# EAGLE library part XCL101A301ER-G (library XCL101A301ER-G)
Switching Voltage Regulators 100mA Inductor micro DCDC Converter Source: Datasheet <https://www.torexsemi.com/file/xcl101/XCL101.pdf>
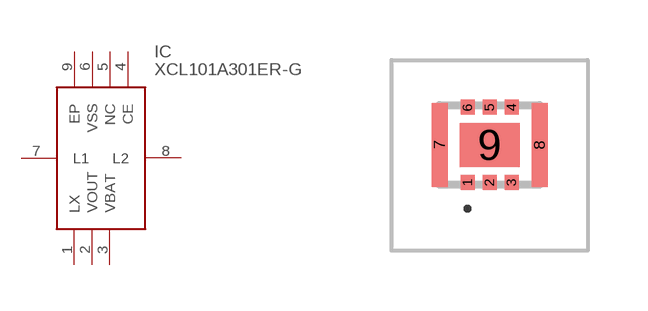
[diagram p0: symbol with the pads of XCL101A301ERG; footprint XCL101A301ERG]

Designator prefix IC

## XCL101A301ER-G (Description: Switching Voltage Regulators 100mA Inductor micro DCDC Converter; Height: 1.04mm; Manufacturer_Name: Torex; Manufacturer_Part_Number: XCL101A301ER-G; Mouser_Part_Number: 865-XCL101A301ER-G; Mouser_Price-Stock: https://www.mouser.co.uk/ProductDetail/Torex-Semiconductor/XCL101A301ER-G?qs=AsjdqWjXhJ8wOG80xjS4Aw%3D%3D)  [XCL101A301ERG]
1  LX
2  VOUT
3  VBAT
4  CE
5  NC  nc
6  VSS
7  L1
8  L2
9  EP

## Footprint XCL101A301ERG (pad centres in mm)
XCL101A301ER-G-8
smd 0.35 x 0.375: 1 -0.55,-0.938; 2 0,-0.938; 3 0.55,-0.938; 4 0.55,0.938; 5 0,0.938; 6 -0.55,0.938
smd 0.4 x 2.1: 7 -1.25,0; 8 1.25,0
smd 1.5 x 1.1: 9 0,0